# Altium schematic symbol library sensor.SchLib: 15 symbols
Pins are listed as number, name and electrical type; pins without a type are passive.

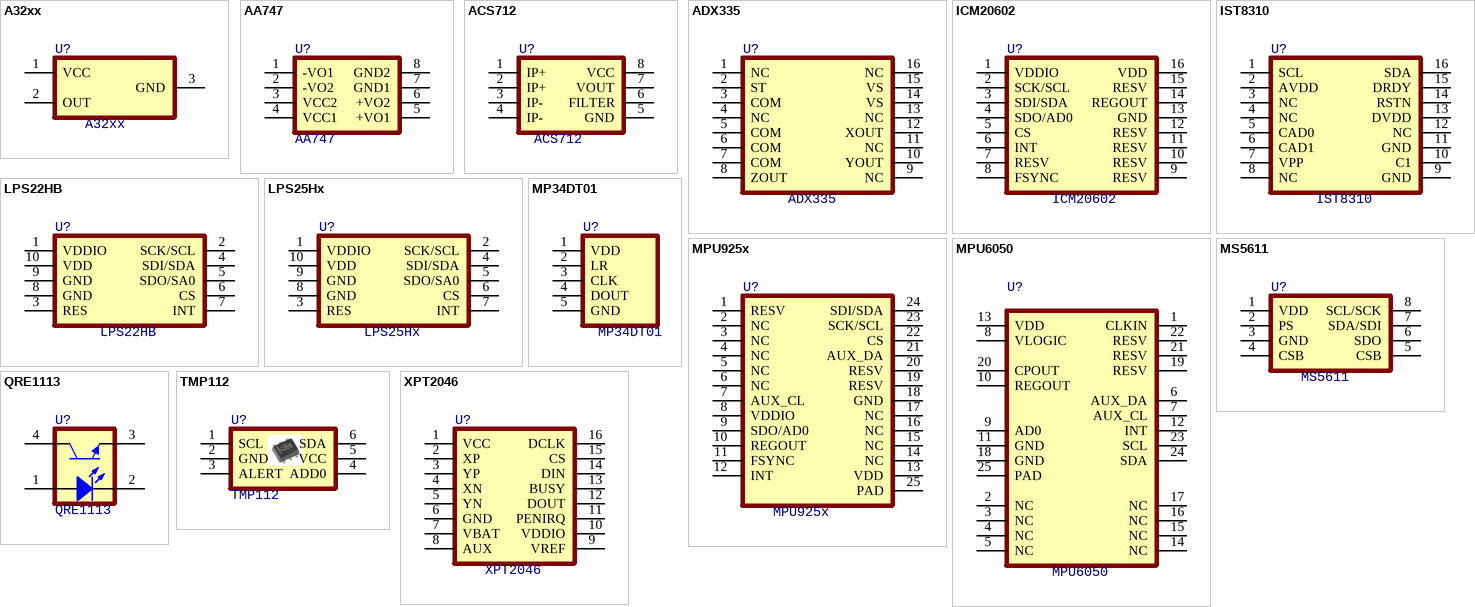
[diagram p0: symbols A32xx to XPT2046]

## A32xx
designator U?
Sensor Hall
footprint _SOT23-3
pins: 1 VCC, 2 OUT, 3 GND

## AA747
designator U?
Angular Sensor; Manufacturer: Sensitec GmbH; Value: E150 P1.27; Specification: -40 °C to +150 °C; Type: SOP8
footprint _SOP_E150_8
pins: 1 -VO1, 2 -VO2, 3 VCC2, 4 VCC1, 5 +VO1, 6 +VO2, 7 GND1, 8 GND2

## ACS712
designator U?
Sensor Current
footprint _SOP_E150_8
pins: 1 IP+, 2 IP+, 3 IP-, 4 IP-, 5 GND, 6 FILTER, 7 VOUT, 8 VCC

## ADX335
designator U?
Sensor Motion
footprint _QFN_P0.65_16
pins: 1 NC, 2 ST, 3 COM, 4 NC, 5 COM, 6 COM, 7 COM, 8 ZOUT, 9 NC, 10 YOUT, 11 NC, 12 XOUT, 13 NC, 14 VS, 15 VS, 16 NC

## ICM20602
designator U?
Sensor Motion; Type: LGA16 P0.5
footprint _LGA_P0.5_16
pins: 1 VDDIO, 2 SCK/SCL, 3 SDI/SDA, 4 SDO/AD0, 5 CS, 6 INT, 7 RESV, 8 FSYNC, 9 RESV, 10 RESV, 11 RESV, 12 RESV, 13 GND, 14 REGOUT, 15 RESV, 16 VDD

## IST8310
designator U?
Sensor Magnetometer; Type: QFN16 P0.5
footprint _QFN_P0.5_16
pins: 1 SCL, 2 AVDD, 3 NC, 4 NC, 5 CAD0, 6 CAD1, 7 VPP, 8 NC, 9 GND, 10 C1, 11 GND, 12 NC, 13 DVDD, 14 RSTN, 15 DRDY, 16 SDA

## LPS22HB
designator U?
Sensor Pressure; Type: LGA10 P0.5
footprint _HCLGA-2x2_10
pins: 1 VDDIO, 2 SCK/SCL, 3 RES, 4 SDI/SDA, 5 SDO/SA0, 6 CS, 7 INT, 8 GND, 9 GND, 10 VDD

## LPS25Hx
designator U?
Sensor Pressure
footprint _HCLGA-2.5x2.5_10
pins: 1 VDDIO, 2 SCK/SCL, 3 RES, 4 SDI/SDA, 5 SDO/SA0, 6 CS, 7 INT, 8 GND, 9 GND, 10 VDD

## MP34DT01
designator U?
Sensor Microphone
footprint _HCLGA_3x4_4
pins: 1 VDD, 2 LR, 3 CLK, 4 DOUT, 5 GND

## MPU925x
designator U?
Sensor Motion; Type: QFN24 P0.4
footprint _QFN_P0.4_24
pins: 1 RESV, 2 NC, 3 NC, 4 NC, 5 NC, 6 NC, 7 AUX_CL, 8 VDDIO, 9 SDO/AD0, 10 REGOUT, 11 FSYNC, 12 INT, 13 VDD, 14 NC, 15 NC, 16 NC, 17 NC, 18 GND, 19 RESV, 20 RESV, 21 AUX_DA, 22 CS, 23 SCK/SCL, 24 SDI/SDA, 25 PAD

## MPU6050
designator U?
Sensor Motion; Type: QFN24 P0.4
footprint QFN50P400X400X95_HS-25N (QFN, 24-Leads, Body 4.00x4.00mm, Pitch 0.50mm, Thermal Pad 2.60x2.70mm, IPC Medium Density)
pins: 1 CLKIN, 2 NC, 3 NC, 4 NC, 5 NC, 6 AUX_DA, 7 AUX_CL, 8 VLOGIC, 9 AD0, 10 REGOUT, 11 GND, 12 INT, 13 VDD, 14 NC, 15 NC, 16 NC, 17 NC, 18 GND, 19 RESV, 20 CPOUT, 21 RESV, 22 RESV, 23 SCL, 24 SDA, 25 PAD

## MS5611
designator U?
Sensor
footprint __MS5611_8
pins: 1 VDD, 2 PS, 3 GND, 4 CSB, 5 CSB, 6 SDO, 7 SDA/SDI, 8 SCL/SCK

## QRE1113
designator U?
Sensor IR
footprint _QRE1113GR
pins: 1 A, 2 C, 3 E, 4 C

## TMP112
designator U?
TMP112x High-Accuracy, Low-Power, Digital Temperature Sensors With SMBus and TwoWire Serial Interface in SOT563
footprint SOT563_6 (SOT-563, SOT-666, 6 LEAD, Body 1.2x1.6mm, Pitch 0.50mm)
pins: 1 SCL, 2 GND, 3 ALERT, 4 ADD0, 5 VCC, 6 SDA

## XPT2046
designator U?
Sensor Touch
footprint _TSSOP_E170_P0.65_16
pins: 1 VCC, 2 XP, 3 YP, 4 XN, 5 YN, 6 GND, 7 VBAT, 8 AUX, 9 VREF, 10 VDDIO, 11 PENIRQ, 12 DOUT, 13 BUSY, 14 DIN, 15 CS, 16 DCLK